# EAGLE library part 2X41464 (library coco)
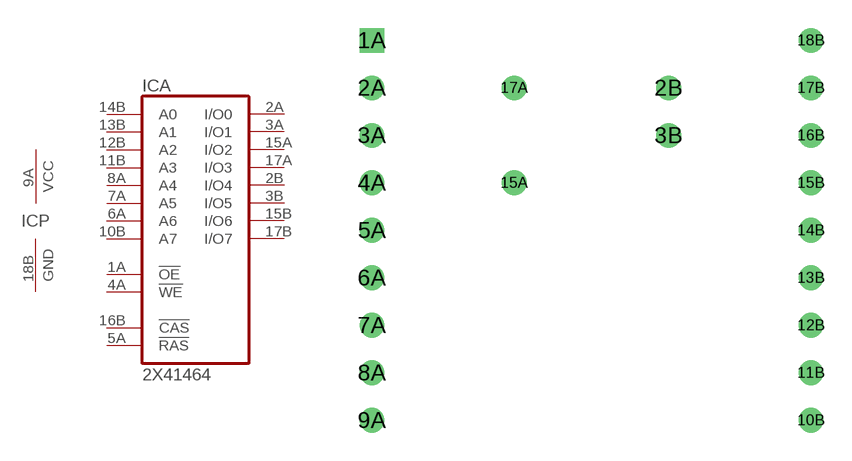
[diagram p6: symbol with the pads of 2XDIL18_REV; footprint 2XDIL18_REV]

Designator prefix IC; gates A=41464X2_DRAM P=PWR-GND

## 2X41464  [2XDIL18_REV]
1A  A:!OE  in
2A  A:I/O0
2B  A:I/O4
3A  A:I/O1
3B  A:I/O5
4A  A:!WE  in
5A  A:!RAS  in
6A  A:A6  in
7A  A:A5  in
8A  A:A4  in
9A  P:VCC  pwr
10B  A:A7  in
11B  A:A3  in
12B  A:A2  in
13B  A:A1  in
14B  A:A0  in
15A  A:I/O2
15B  A:I/O6
16B  A:!CAS  in
17A  A:I/O3
17B  A:I/O7
18B  P:GND  pwr

## Footprint 2XDIL18_REV (pad centres in mm)
Dual In Line Package
drill 0.813 square: 1A -11.43,10.16
drill 0.813: 2A -11.43,7.62; 2B 4.445,7.62; 3A -11.43,5.08; 3B 4.445,5.08; 4A -11.43,2.54; 5A -11.43,0; 6A -11.43,-2.54; 7A -11.43,-5.08; 8A -11.43,-7.62; 9A -11.43,-10.16; 10B 12.065,-10.16; 11B 12.065,-7.62; 12B 12.065,-5.08; 13B 12.065,-2.54; 14B 12.065,0; 15A -3.81,2.54; 15B 12.065,2.54; 16B 12.065,5.08; 17A -3.81,7.62; 17B 12.065,7.62; 18B 12.065,10.16